# Altium footprint library IPC-7353 TSSOP_30P_M.PcbLib: 4 footprints
Each footprint in its own frame and in the unit in brackets; x right, y up, seen from the top. Pads: shape width x height; smd on the part's side, far side on the other; paste and mask are expansions set on the pad; w line width, h text height; cw(c..) or ccw(c..) is an arc to the next point about the centre after c.
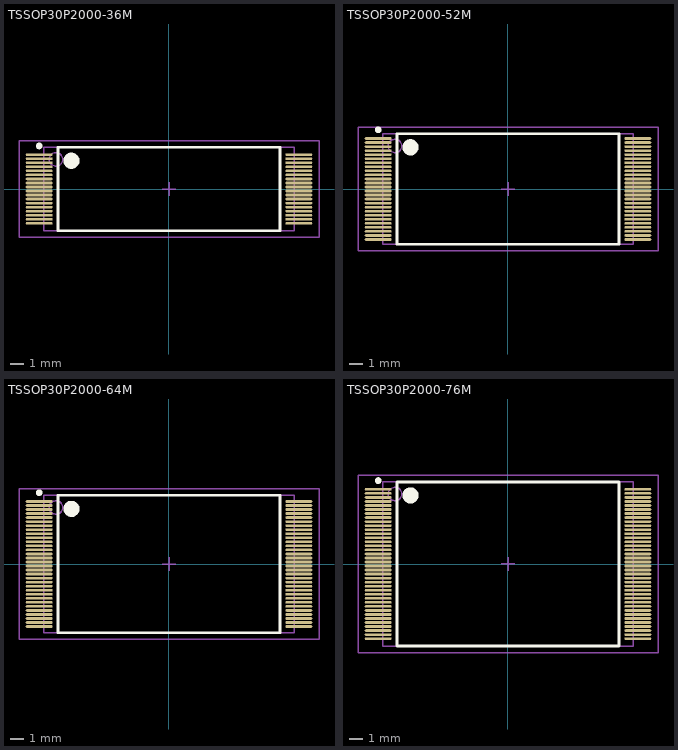
[diagram p0: the footprints below, top view; thin cyan lines are the x and y axes]

## TSSOP30P2000-36M  [mm] "TSSOP, 36-Leads, Body 6.2x18.6mm; Pitch 0.3mm, IPC Low Density"
height 1.27
pads (36):
  oval 2x0.2 smd: 1(-9.65,2.55) 2(-9.65,2.25) 3(-9.65,1.95) 4(-9.65,1.65) 5(-9.65,1.35) 6(-9.65,1.05) 7(-9.65,0.75) 8(-9.65,0.45) 9(-9.65,0.15) 10(-9.65,-0.15) 11(-9.65,-0.45) 12(-9.65,-0.75) 13(-9.65,-1.05) 14(-9.65,-1.35) 15(-9.65,-1.65) 16(-9.65,-1.95) 17(-9.65,-2.25) 18(-9.65,-2.55) 19(9.65,-2.55) 20(9.65,-2.25) 21(9.65,-1.95) 22(9.65,-1.65) 23(9.65,-1.35) 24(9.65,-1.05) 25(9.65,-0.75) 26(9.65,-0.45) 27(9.65,-0.15) 28(9.65,0.15) 29(9.65,0.45) 30(9.65,0.75) 31(9.65,1.05) 32(9.65,1.35) 33(9.65,1.65) 34(9.65,1.95) 35(9.65,2.25) 36(9.65,2.55)
Top Overlay:
  circle w0.6: c-7.25,2.1 r0.3
  circle w0.25: c-9.65,3.2 r0.125
  lines w0.2: -8.25,-3.1 8.25,-3.1 8.25,3.1 -8.25,3.1 -8.25,-3.1
Mechanical 13:
  circle w0.1: c-8.4,2.2 r0.5
  lines w0.1: -9.3,-3.1 9.3,-3.1 9.3,3.1 -9.3,3.1 -9.3,-3.1
Mechanical 15:
  lines w0.1: -0.5,0 0.5,0 ; 0,-0.5 0,0.5 ; -11.15,-3.6 11.15,-3.6 11.15,3.6 -11.15,3.6 -11.15,-3.6
3D body: height 1.27, standoff 0, extent -9.3,-3.1 9.3,3.1

## TSSOP30P2000-52M  [mm] "TSSOP, 52-Leads, Body 8.2x18.6mm; Pitch 0.3mm, IPC Low Density"
height 1.27
pads (52):
  oval 2x0.2 smd: 1(-9.65,3.75) 2(-9.65,3.45) 3(-9.65,3.15) 4(-9.65,2.85) 5(-9.65,2.55) 6(-9.65,2.25) 7(-9.65,1.95) 8(-9.65,1.65) 9(-9.65,1.35) 10(-9.65,1.05) 11(-9.65,0.75) 12(-9.65,0.45) 13(-9.65,0.15) 14(-9.65,-0.15) 15(-9.65,-0.45) 16(-9.65,-0.75) 17(-9.65,-1.05) 18(-9.65,-1.35) 19(-9.65,-1.65) 20(-9.65,-1.95) 21(-9.65,-2.25) 22(-9.65,-2.55) 23(-9.65,-2.85) 24(-9.65,-3.15) 25(-9.65,-3.45) 26(-9.65,-3.75) 27(9.65,-3.75) 28(9.65,-3.45) 29(9.65,-3.15) 30(9.65,-2.85) 31(9.65,-2.55) 32(9.65,-2.25) 33(9.65,-1.95) 34(9.65,-1.65) 35(9.65,-1.35) 36(9.65,-1.05) 37(9.65,-0.75) 38(9.65,-0.45) 39(9.65,-0.15) 40(9.65,0.15) 41(9.65,0.45) 42(9.65,0.75) 43(9.65,1.05) 44(9.65,1.35) 45(9.65,1.65) 46(9.65,1.95) 47(9.65,2.25) 48(9.65,2.55) 49(9.65,2.85) 50(9.65,3.15) 51(9.65,3.45) 52(9.65,3.75)
Top Overlay:
  circle w0.25: c-9.65,4.4 r0.125
  circle w0.6: c-7.25,3.1 r0.3
  lines w0.2: -8.25,-4.1 -8.25,4.1 8.25,4.1 8.25,-4.1 -8.25,-4.1
Mechanical 13:
  circle w0.1: c-8.4,3.2 r0.5
  lines w0.1: -9.3,-4.1 -9.3,4.1 9.3,4.1 9.3,-4.1 -9.3,-4.1
Mechanical 15:
  lines w0.1: -0.5,0 0.5,0 ; 0,-0.5 0,0.5 ; -11.15,-4.6 -11.15,4.6 11.15,4.6 11.15,-4.6 -11.15,-4.6
3D body: height 1.27, standoff 0, extent -9.3,-4.1 9.3,4.1

## TSSOP30P2000-64M  [mm] "TSSOP, 64-Leads, Body 10.2x18.6mm; Pitch 0.3mm, IPC Low Density"
height 1.27
pads (64):
  oval 2x0.2 smd: 1(-9.65,4.65) 2(-9.65,4.35) 3(-9.65,4.05) 4(-9.65,3.75) 5(-9.65,3.45) 6(-9.65,3.15) 7(-9.65,2.85) 8(-9.65,2.55) 9(-9.65,2.25) 10(-9.65,1.95) 11(-9.65,1.65) 12(-9.65,1.35) 13(-9.65,1.05) 14(-9.65,0.75) 15(-9.65,0.45) 16(-9.65,0.15) 17(-9.65,-0.15) 18(-9.65,-0.45) 19(-9.65,-0.75) 20(-9.65,-1.05) 21(-9.65,-1.35) 22(-9.65,-1.65) 23(-9.65,-1.95) 24(-9.65,-2.25) 25(-9.65,-2.55) 26(-9.65,-2.85) 27(-9.65,-3.15) 28(-9.65,-3.45) 29(-9.65,-3.75) 30(-9.65,-4.05) 31(-9.65,-4.35) 32(-9.65,-4.65) 33(9.65,-4.65) 34(9.65,-4.35) 35(9.65,-4.05) 36(9.65,-3.75) 37(9.65,-3.45) 38(9.65,-3.15) 39(9.65,-2.85) 40(9.65,-2.55) 41(9.65,-2.25) 42(9.65,-1.95) 43(9.65,-1.65) 44(9.65,-1.35) 45(9.65,-1.05) 46(9.65,-0.75) 47(9.65,-0.45) 48(9.65,-0.15) 49(9.65,0.15) 50(9.65,0.45) 51(9.65,0.75) 52(9.65,1.05) 53(9.65,1.35) 54(9.65,1.65) 55(9.65,1.95) 56(9.65,2.25) 57(9.65,2.55) 58(9.65,2.85) 59(9.65,3.15) 60(9.65,3.45) 61(9.65,3.75) 62(9.65,4.05) 63(9.65,4.35) 64(9.65,4.65)
Top Overlay:
  circle w0.25: c-9.65,5.3 r0.125
  circle w0.6: c-7.25,4.1 r0.3
  lines w0.2: -8.25,-5.1 -8.25,5.1 8.25,5.1 8.25,-5.1 -8.25,-5.1
Mechanical 13:
  circle w0.1: c-8.4,4.2 r0.5
  lines w0.1: -9.3,-5.1 -9.3,5.1 9.3,5.1 9.3,-5.1 -9.3,-5.1
Mechanical 15:
  lines w0.1: -0.5,0 0.5,0 ; 0,-0.5 0,0.5 ; -11.15,-5.6 -11.15,5.6 11.15,5.6 11.15,-5.6 -11.15,-5.6
3D body: height 1.27, standoff 0, extent -9.3,-5.1 9.3,5.1

## TSSOP30P2000-76M  [mm] "TSSOP, 76-Leads, Body 12.2x18.6mm; Pitch 0.3mm, IPC Low Density"
height 1.27
pads (76):
  oval 2x0.2 smd: 1(-9.65,5.55) 2(-9.65,5.25) 3(-9.65,4.95) 4(-9.65,4.65) 5(-9.65,4.35) 6(-9.65,4.05) 7(-9.65,3.75) 8(-9.65,3.45) 9(-9.65,3.15) 10(-9.65,2.85) 11(-9.65,2.55) 12(-9.65,2.25) 13(-9.65,1.95) 14(-9.65,1.65) 15(-9.65,1.35) 16(-9.65,1.05) 17(-9.65,0.75) 18(-9.65,0.45) 19(-9.65,0.15) 20(-9.65,-0.15) 21(-9.65,-0.45) 22(-9.65,-0.75) 23(-9.65,-1.05) 24(-9.65,-1.35) 25(-9.65,-1.65) 26(-9.65,-1.95) 27(-9.65,-2.25) 28(-9.65,-2.55) 29(-9.65,-2.85) 30(-9.65,-3.15) 31(-9.65,-3.45) 32(-9.65,-3.75) 33(-9.65,-4.05) 34(-9.65,-4.35) 35(-9.65,-4.65) 36(-9.65,-4.95) 37(-9.65,-5.25) 38(-9.65,-5.55) 39(9.65,-5.55) 40(9.65,-5.25) 41(9.65,-4.95) 42(9.65,-4.65) 43(9.65,-4.35) 44(9.65,-4.05) 45(9.65,-3.75) 46(9.65,-3.45) 47(9.65,-3.15) 48(9.65,-2.85) 49(9.65,-2.55) 50(9.65,-2.25) 51(9.65,-1.95) 52(9.65,-1.65) 53(9.65,-1.35) 54(9.65,-1.05) 55(9.65,-0.75) 56(9.65,-0.45) 57(9.65,-0.15) 58(9.65,0.15) 59(9.65,0.45) 60(9.65,0.75) 61(9.65,1.05) 62(9.65,1.35) 63(9.65,1.65) 64(9.65,1.95) 65(9.65,2.25) 66(9.65,2.55) 67(9.65,2.85) 68(9.65,3.15) 69(9.65,3.45) 70(9.65,3.75) 71(9.65,4.05) 72(9.65,4.35) 73(9.65,4.65) 74(9.65,4.95) 75(9.65,5.25) 76(9.65,5.55)
Top Overlay:
  circle w0.25: c-9.65,6.2 r0.125
  circle w0.6: c-7.25,5.1 r0.3
  lines w0.2: -8.25,-6.1 -8.25,6.1 8.25,6.1 8.25,-6.1 -8.25,-6.1
Mechanical 13:
  circle w0.1: c-8.4,5.2 r0.5
  lines w0.1: -9.3,-6.1 -9.3,6.1 9.3,6.1 9.3,-6.1 -9.3,-6.1
Mechanical 15:
  lines w0.1: -0.5,0 0.5,0 ; 0,-0.5 0,0.5 ; -11.15,-6.6 -11.15,6.6 11.15,6.6 11.15,-6.6 -11.15,-6.6
3D body: height 1.27, standoff 0, extent -9.3,-6.1 9.3,6.1